# Altium integrated library Molex.IntLib: 1 symbol
Pins are listed as number, name and electrical type; pins without a type are passive.

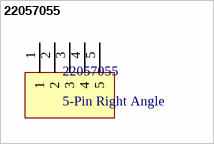
[diagram p0: symbol 22057055]

## 22057055
designator 22057055, comment 5-Pin Right Angle
footprint 22057055
pins: 1, 2, 3, 4, 5